# Altium footprint library JST SR.PcbLib: 2 footprints
Each footprint in its own frame and in the unit in brackets; x right, y up, seen from the top. Pads: shape width x height; smd on the part's side, far side on the other; paste and mask are expansions set on the pad; w line width, h text height; cw(c..) or ccw(c..) is an arc to the next point about the centre after c.
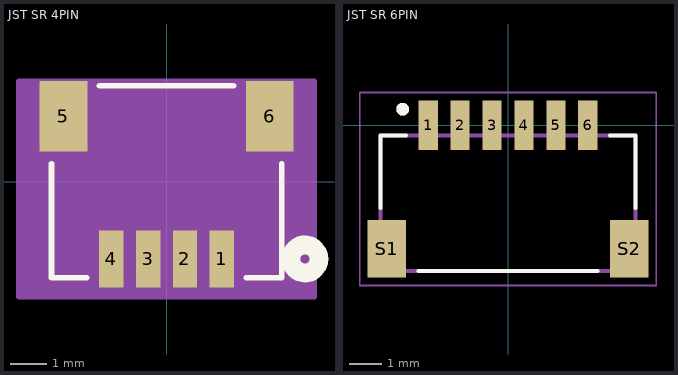
[diagram p0: the footprints below, top view; thin cyan lines are the x and y axes]

## JST SR 4PIN [mil] "CONN_SM04B-SRSS-TB_JST"
pads (6):
  rect 26x61 smd paste+0 mask+0: 1(59.06,-82.62) 2(19.68,-82.62) 3(-19.68,-82.62) 4(-59.06,-82.62)
  rect 51x75 smd paste-37.5 mask-37.5: 5(-110.24,69.94) 6(110.24,69.94)
Top Overlay:
  circle w20: c148,-82.62 r15
  lines w6: -123,19.34 -123,-102.5 -85.16,-102.5 ; -71.64,102.5 71.64,102.5 ; 85.16,-102.5 123,-102.5 123,19.34
Mechanical 13:
  lines w1: -118,-97.5 118,-97.5 118,97.5 -118,97.5 -118,-97.5
Mechanical 15:
  region: 157.74,107.5 -157.74,107.5 -157.74,-123.12 157.74,-123.12
  lines w6: -157.74,-123.12 -157.74,107.5 157.74,107.5 157.74,-123.12 -157.74,-123.12
3D body "SM04B-SRSS-TB.STEP": height 116.34, standoff -0.2, extent -118.11,-90.54 118.11,104.32

## JST SR 6PIN [mm]
pads (8):
  rect 0.6x1.55 smd: 1(-2.5,0) 2(-1.5,0) 3(-0.5,0) 4(0.5,0) 5(1.5,0) 6(2.5,0)
  rect 1.2x1.8 smd: S1(-3.8,-3.875) S2(3.8,-3.875)
Top Overlay:
  circle w0.2: c-3.3,0.5 r0.1
  lines w0.127: -4,-2.6 -4,-0.325 -3.2,-0.325 ; -2.8,-4.575 2.8,-4.575 ; 3.2,-0.325 4,-0.325 4,-2.6
Mechanical 13:
  circle w0.2: c-3.3,0.5 r0.1
  lines w0.127: -4,-4.575 -4,-0.325 4,-0.325 4,-4.575 -4,-4.575
Mechanical 15:
  lines w0.05: -4.65,-5.025 -4.65,1.025 4.65,1.025 4.65,-5.025 -4.65,-5.025
3D body "SM06B-SRSS-TB(LF)(SN)--3DModel-STEP-269445.STEP": height 2.95, standoff 0, extent -4,-4.634 4,0.316